# EAGLE library part M45PEXX (library DAC)
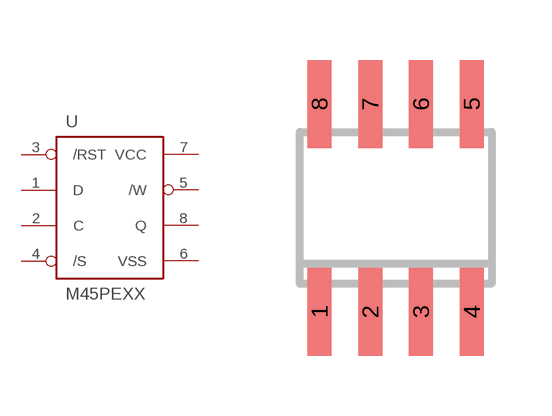
[diagram p44: symbol with the pads of SOIC8; footprint SOIC8]

Designator prefix U

## M45PEXX  [SOIC8]
1  D  in
2  C  in
3  /RST  in
4  /S  in
5  /W  in
6  VSS  sup
7  VCC  pwr
8  Q  out

## Footprint SOIC8 (pad centres in mm)
smd 0.6 x 2.2: 1 -1.905,-2.6; 2 -0.635,-2.6; 3 0.635,-2.6; 4 1.905,-2.6; 5 1.905,2.6; 6 0.635,2.6; 7 -0.635,2.6; 8 -1.905,2.6